# EAGLE library part SENS_TEMP_ADT7310 (library SNWCT_EAGLE_LBR)
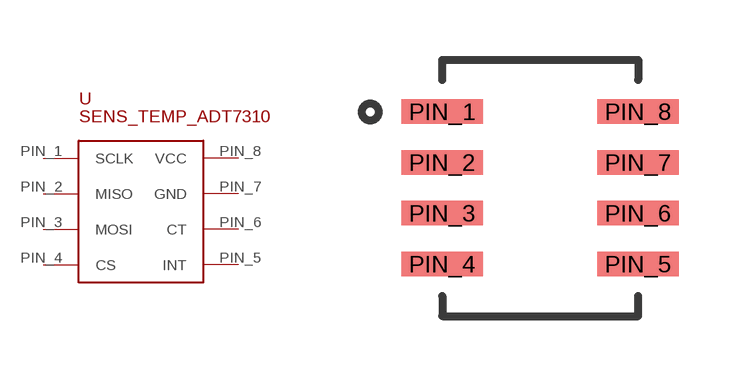
[diagram p4: symbol with the pads of SOIC-8; footprint SOIC-8]

Designator prefix -

## SENS_TEMP_ADT7310  [SOIC-8]
PIN_1  SCLK
PIN_2  MISO
PIN_3  MOSI
PIN_4  CS
PIN_5  INT
PIN_6  CT
PIN_7  GND
PIN_8  VCC

## Footprint SOIC-8 (pad centres in mm)
smd 2.03 x 0.61: PIN_1 0,0.01; PIN_2 0,-1.26; PIN_3 0,-2.53; PIN_4 0,-3.8; PIN_5 4.9,-3.8; PIN_6 4.9,-2.53; PIN_7 4.9,-1.26; PIN_8 4.9,0.01